# EAGLE library part FH12-20S-0.5SH(586-0524-9) (library Seeed-OPL-2017-01-connector-edward)
320060012
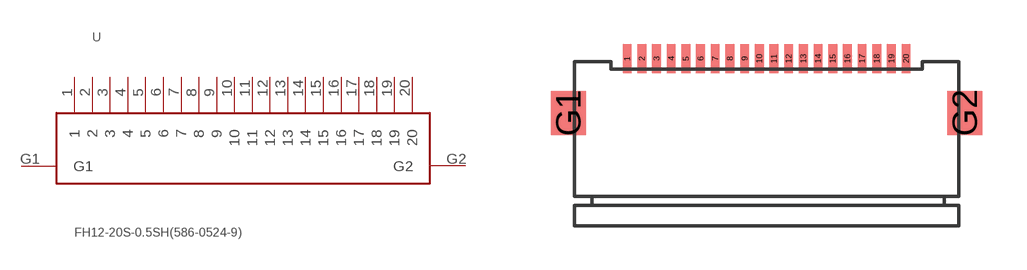
[diagram p2: symbol with the pads of FH12-20S-0.5H; footprint FH12-20S-0.5H]

Designator prefix -

## FH12-20S-0.5SH(586-0524-9)  [FH12-20S-0.5H]
1  1
2  2
3  3
4  4
5  5
6  6
7  7
8  8
9  9
10  10
11  11
12  12
13  13
14  14
15  15
16  16
17  17
18  18
19  19
20  20
G1  G1
G2  G2

## Footprint FH12-20S-0.5H (pad centres in mm)
smd 0.3 x 1: 1 1.7,1.85; 2 2.2,1.85; 3 2.7,1.85; 4 3.2,1.85; 5 3.7,1.85; 6 4.2,1.85; 7 4.7,1.85; 8 5.2,1.85; 9 5.7,1.85; 10 6.2,1.85; 11 6.7,1.85; 12 7.2,1.85; 13 7.7,1.85; 14 8.2,1.85; 15 8.7,1.85; 16 9.2,1.85; 17 9.7,1.85; 18 10.2,1.85; 19 10.7,1.85; 20 11.2,1.85
smd 1.2 x 1.5: G1 -0.3,0; G2 13.2,0